# Altium schematic symbol library MIC_ELECTRET_CASTLE_PAD.SchLib: 1 symbol
Pins are listed as number, name and electrical type; pins without a type are passive.

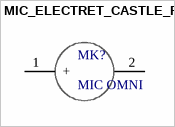
[diagram p0: symbol MIC_ELECTRET_CASTLE_PAD]

## MIC_ELECTRET_CASTLE_PAD
designator MK?, comment MIC OMNI
20 Hz ~ 20 kHz Analog Microphone Electret Condenser Omnidirectional (-24dB ±3dB) Solder Pads; Manufacturer Product Number: AOM-5024L-HD-R; Manufacturer: PUI Audio, Inc.; Supplier 1: Digi-Key; Supplier Part Number 1: 668-1596-ND
footprint MIC_ELECTRET_CASTLE PAD
pins: 1 +, 2